# EAGLE library part AXK7L30223G (library Connector)
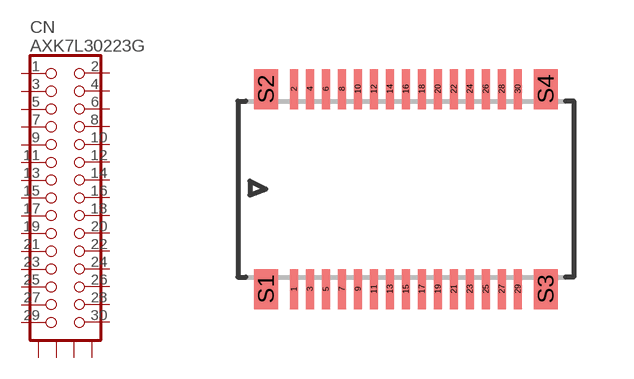
[diagram p32: symbol with the pads of AXK7L30223G; footprint AXK7L30223G]

Designator prefix CN

## AXK7L30223G  [AXK7L30223G]
1  1  pas
2  2  pas
3  3  pas
4  4  pas
5  5  pas
6  6  pas
7  7  pas
8  8  pas
9  9  pas
10  10  pas
11  11  pas
12  12  pas
13  13  pas
14  14  pas
15  15  pas
16  16  pas
17  17  pas
18  18  pas
19  19  pas
20  20  pas
21  21  pas
22  22  pas
23  23  pas
24  24  pas
25  25  pas
26  26  pas
27  27  pas
28  28  pas
29  29  pas
30  30  pas
S1  S1  pas
S2  S2  pas
S3  S3  pas
S4  S4  pas

## Footprint AXK7L30223G (pad centres in mm)
smd 0.2 x 1: 1 -2.8,-2.5; 2 -2.8,2.5; 3 -2.4,-2.5; 4 -2.4,2.5; 5 -2,-2.5; 6 -2,2.5; 7 -1.6,-2.5; 8 -1.6,2.5; 9 -1.2,-2.5; 10 -1.2,2.5; 11 -0.8,-2.5; 12 -0.8,2.5; 13 -0.4,-2.5; 14 -0.4,2.5; 15 0,-2.5; 16 0,2.5; 17 0.4,-2.5; 18 0.4,2.5; 19 0.8,-2.5; 20 0.8,2.5; 21 1.2,-2.5; 22 1.2,2.5; 23 1.6,-2.5; 24 1.6,2.5; 25 2,-2.5; 26 2,2.5; 27 2.4,-2.5; 28 2.4,2.5; 29 2.8,-2.5; 30 2.8,2.5
smd 0.6 x 1: S1 -3.5,-2.5; S2 -3.5,2.5; S3 3.5,-2.5; S4 3.5,2.5